# Altium schematic symbol library Components - 23.04.22 - 12.54.SchLib: 1 symbol
Pins are listed as number, name and electrical type; pins without a type are passive.

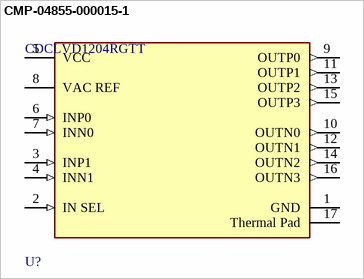
[diagram p0: symbol CMP-04855-000015-1]

## CMP-04855-000015-1
designator U?, comment CDCLVD1204RGTT
IC CLK BUFFER 2:4 800MHZ 16QFN; Number of Circuits: 1; Operating Supply Current: 60mA; Propagation Delay: 2.5ns; Operating Supply Voltage: 2.5V; Number of Drivers: 2; Min Supply Voltage: 2.375V; Number of Outputs: 4; Interface: LVDS; Mode of Operation: DIFFERENTIAL; Input: LVCMOS; Max Supply Voltage: 2.625V; Min Operating Temperature: -40°C; Number of Pins: 16; Turn-On Delay Time: 2.5ns; Weight: 0.00085oz; Length: 3.15mm; Max Frequency: 800MHz; Case/Package: QFN; Contact Plating: Gold; Mount: Surface Mount; Nominal Supply Current: 60mA; Packaging: Tape and Reel; Max Operating Temperature: 85°C; Package Quantity: 250; Frequency: 800MHz; Width: 3.15mm; Supply Current: 60mA; Lead Free: Lead Free; Radiation Hardening: No; Series: CDCLVD1204; REACH SVHC: No SVHC; Height: 0.95mm
footprint FP-RGT0016C-MFG
footprint FP-RGT0016C-IPC_C
footprint FP-RGT0016C-IPC_B
footprint FP-RGT0016C-IPC_A
pins: 1 GND (power), 2 IN SEL (in), 3 INP1 (in), 4 INN1 (in), 5 VCC (power), 6 INP0 (in), 7 INN0 (in), 8 VAC REF (power), 9 OUTP0 (out), 10 OUTN0 (out), 11 OUTP1 (out), 12 OUTN1 (out), 13 OUTP2 (out), 14 OUTN2 (out), 15 OUTP3 (out), 16 OUTN3 (out), 17 Thermal Pad (power)